# Altium integrated library hall_sensors.IntLib: 4 symbols
Pins are listed as number, name and electrical type; pins without a type are passive.

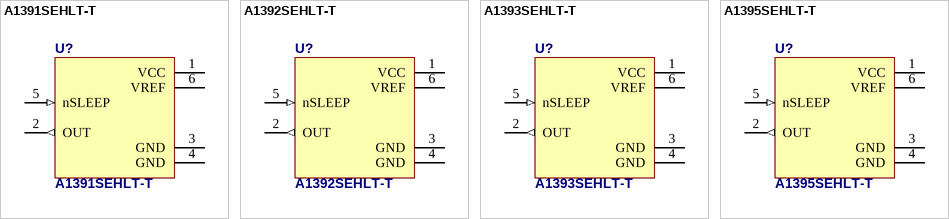
[diagram p0: symbols A1391SEHLT-T to A1395SEHLT-T]

## A1391SEHLT-T
designator U?
Micro Power 3 V Linear Hall Effect Sensor (Sensitivity: 1,25 mV/G) IC with Tri-State Output and User Selectable Sleep Mode
footprint MLP/DFN6
pins: 1 VCC (power), 2 OUT (out), 3 GND (power), 4 GND (power), 5 nSLEEP (in), 6 VREF (power)

## A1392SEHLT-T
designator U?
Micro Power 3 V Linear Hall Effect Sensor (Sensitivity: 2,5 mV/G) IC with Tri-State Output and User Selectable Sleep Mode
footprint MLP/DFN6
pins: 1 VCC (power), 2 OUT (out), 3 GND (power), 4 GND (power), 5 nSLEEP (in), 6 VREF (power)

## A1393SEHLT-T
designator U?
Micro Power 3 V Linear Hall Effect Sensor (Sensitivity: 5,0 mV/G) IC with Tri-State Output and User Selectable Sleep Mode
footprint MLP/DFN6
pins: 1 VCC (power), 2 OUT (out), 3 GND (power), 4 GND (power), 5 nSLEEP (in), 6 VREF (power)

## A1395SEHLT-T
designator U?
Micro Power 3 V Linear Hall Effect Sensor (Sensitivity: 10,0 mV/G) IC with Tri-State Output and User Selectable Sleep Mode
footprint MLP/DFN6
pins: 1 VCC (power), 2 OUT (out), 3 GND (power), 4 GND (power), 5 nSLEEP (in), 6 VREF (power)